# Altium footprint library Fuses.PcbLib: 6 footprints
Each footprint in its own frame and in the unit in brackets; x right, y up, seen from the top. Pads: shape width x height; smd on the part's side, far side on the other; paste and mask are expansions set on the pad; w line width, h text height; cw(c..) or ccw(c..) is an arc to the next point about the centre after c.
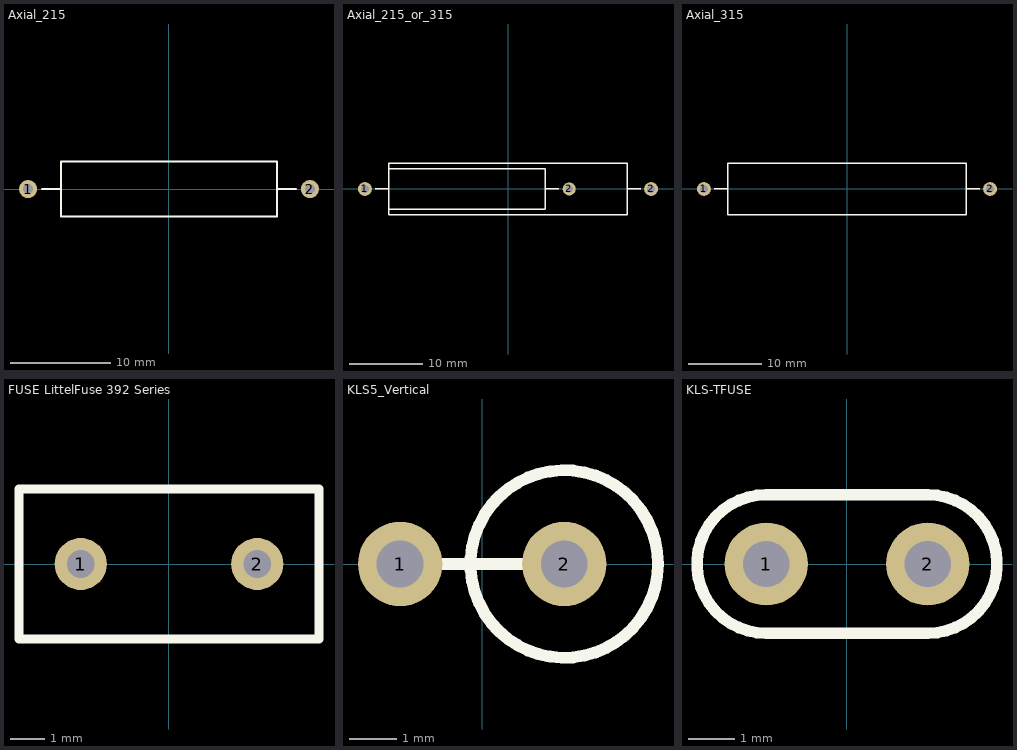
[diagram p0: the footprints below, top view; thin cyan lines are the x and y axes]

## Axial_215 [mm] "Thru-Hole; 2 Leads, 5.5x21.5mm"
height 5
pads (2):
  round 1.8 hole 1: 1(-14,0) 2(14,0)
Top Overlay:
  lines w0.2: -12.6,0 -10.75,0 ; 10.75,-2.75 -10.75,-2.75 -10.75,2.75 10.75,2.75 ; 10.75,-2.743 10.75,2.757 ; 10.75,0 12.6,0
3D body "Fuse_5x20_1.STEP": height 3.4, standoff -2.5, extent 2,-0.4 14.4,0.4
3D body "Fuse_5x20_1.STEP": height 3.4, standoff -2.5, extent -14.4,-0.4 -2,0.4
3D body: height 5.5, standoff 0.5, extent -10.75,-2.497 -5.65,2.497
3D body: height 5.5, standoff 0.5, extent 5.65,-2.497 10.75,2.497
3D body: height 5.75, standoff 0.25, extent -10.75,-2.75 -8.15,2.75
3D body: height 5.75, standoff 0.25, extent 8.15,-2.744 10.75,2.756
3D body: height 5.3, standoff 0.7, extent -5.65,-2.3 5.65,2.3

## Axial_215_or_315 [mm] "Thru-Hole; 2 Leads, 5.5x21.5mm or 7x32.72mm"
pads (3):
  round 1.9 hole 1.1: 1(-19.61,0) 2(19.61,0)
  round 1.8 hole 1: 2(8.39,0)
Top Overlay:
  lines w0.2: -18.21,0 -16.36,0 ; -16.36,3.496 16.36,3.496 ; -16.36,3.5 -16.36,-3.5 16.36,-3.5 ; 5.14,-2.75 -16.36,-2.75 -16.36,2.75 5.14,2.75 ; 5.14,-2.743 5.14,2.757 ; 5.14,0 6.99,0 ; 16.36,-3.506 16.36,3.494 ; 16.36,0 18.21,0
3D body: height 6.6, standoff 0.6, extent -11.26,-3 11.26,3
3D body: height 7.09, standoff 0.11, extent -16.36,-3.483 -13.76,3.496
3D body: height 6.78, standoff 0.43, extent -16.36,-3.172 -11.26,3.172
3D body "Fuse_5x20_1.STEP": height 4, standoff -1.9, extent -20.01,-0.4 -7.61,0.4
3D body "Fuse_5x20_1.STEP": height 4, standoff -1.9, extent 7.61,-0.4 20.01,0.4
3D body: height 6.78, standoff 0.43, extent 11.26,-3.172 16.36,3.172
3D body: height 7.09, standoff 0.11, extent 13.76,-3.482 16.36,3.495

## Axial_315 [mm] "Thru-Hole; 2 Leads, 7x32.72mm"
pads (2):
  round 1.9 hole 1.1: 1(-19.61,0) 2(19.61,0)
Top Overlay:
  lines w0.2: -18.21,0 -16.36,0 ; -16.36,3.496 16.36,3.496 ; -16.36,3.5 -16.36,-3.5 16.36,-3.5 ; 16.36,-3.506 16.36,3.494 ; 16.36,0 18.21,0
3D body: height 6.6, standoff 0.6, extent -11.26,-3 11.26,3
3D body: height 7.09, standoff 0.11, extent -16.36,-3.483 -13.76,3.496
3D body: height 6.78, standoff 0.43, extent -16.36,-3.172 -11.26,3.172
3D body "Fuse_5x20_1.STEP": height 4, standoff -1.9, extent -20.01,-0.4 -7.61,0.4
3D body "Fuse_5x20_1.STEP": height 4, standoff -1.9, extent 7.61,-0.4 20.01,0.4
3D body: height 6.78, standoff 0.43, extent 11.26,-3.172 16.36,3.172
3D body: height 7.09, standoff 0.11, extent 13.76,-3.482 16.36,3.495

## FUSE LittelFuse 392 Series [mm] "Площадка под предохранитель, шаг 5.08мм"
height 8
pads (2):
  round 1.5 hole 0.8: 1(-2.54,0) 2(2.54,0)
Top Overlay:
  lines w0.25: -4.318,-2.159 -4.318,2.159 4.318,2.159 4.318,-2.159 -4.318,-2.159
3D body "Littelfuse 392 Series.STEP": height 8, standoff -2, extent -4.25,-2.252 4.25,2.252

## KLS5_Vertical [mm]
pads (2):
  round 1.8 hole 1: 1(-1.75,0) 2(1.75,0)
Top Overlay:
  circle w0.254: c1.75,0 r2
  lines w0.25: -1.75,0 1.75,0
3D body "KLS5-205.STEP": height 13, standoff -2.5, extent -2.25,-1.8 3.55,1.8

## KLS-TFUSE [mm]
pads (2):
  round 1.8 hole 1: 1(-1.75,0) 2(1.75,0)
Top Overlay:
  lines w0.25: -1.75,-1.5 cw(c-1.75,0) -1.75,1.5 1.75,1.5 cw(c1.75,0) 1.75,-1.5 -1.75,-1.5